# EAGLE library part LS_HOLE (library apricot)
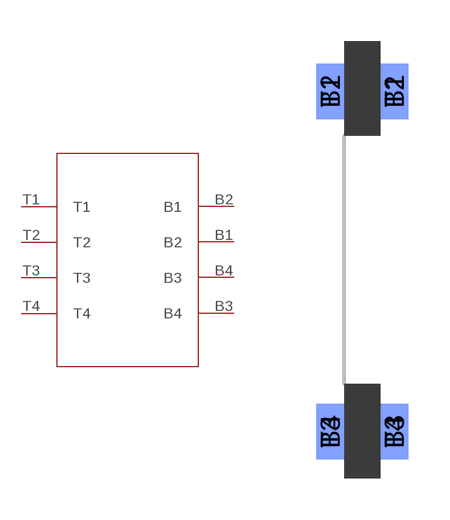
[diagram p1: symbol with the pads of LS; footprint LS]

Designator prefix -

## LS_HOLE  [LS]
B1  B2
B2  B1
B3  B4
B4  B3
T1  T1
T2  T2
T3  T3
T4  T4

## Footprint LS (pad centres in mm)
smd 1 x 2 bottom: B1 1.81,6.096; B2 -0.508,6.096; B3 1.81,-6.223; B4 -0.508,-6.223
smd 1 x 2: T1 -0.508,6.096; T2 1.81,6.096; T3 -0.508,-6.223; T4 1.81,-6.223